# EAGLE library part RRFQ2-* (library RRFQ2)
FSK Superhet Receiver with Crystal Oscillator Source: http://www.telecontrolli.com/download/schede-tecniche-prodotti/receivers/30-rrfq2/download_en.html
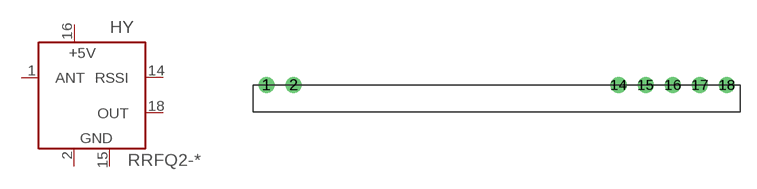
[diagram p0: symbol with the pads of RRFQ2; footprint RRFQ2]

Designator prefix HY

## RRFQ2-  [RRFQ2]
1  ANT  in
2  GND  pwr
14  RSSI  in
15  GND  pwr
16  +5V  pwr
18  OUT  out

## Footprint RRFQ2 (pad centres in mm)
Ceramic Hybrid Package Source: http://www.telecontrolli.com/eng/default-wproducts.html ... rrfq1.pdf
drill 1 pad 1.422 round: 1 -21.59,0; 2 -19.05,0; 14 11.43,0; 15 13.97,0; 16 16.51,0; 17 19.05,0; 18 21.59,0